# EAGLE library part 74HC4066 (library El14_AudioServo)
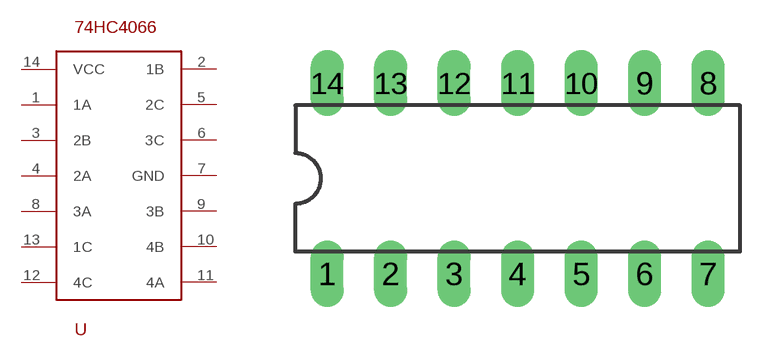
[diagram p1: symbol with the pads of DIP14; footprint DIP14]

Designator prefix -

## 74HC4066  [DIP14]
1  1A
2  1B
3  2B
4  2A
5  2C
6  3C
7  GND
8  3A
9  3B
10  4B
11  4A
12  4C
13  1C
14  VCC

## Footprint DIP14 (pad centres in mm)
drill 0.813 long: 1 1.27,1.27; 2 3.81,1.27; 3 6.35,1.27; 4 8.89,1.27; 5 11.43,1.27; 6 13.97,1.27; 7 16.51,1.27; 8 16.51,8.89; 9 13.97,8.89; 10 11.43,8.89; 11 8.89,8.89; 12 6.35,8.89; 13 3.81,8.89; 14 1.27,8.89